# Altium footprint library CC2530_MYDESIGNV1.PcbLib: 19 footprints (part 1 of 2)
Each footprint in its own frame and in the unit in brackets; x right, y up, seen from the top. Pads: shape width x height; smd on the part's side, far side on the other; paste and mask are expansions set on the pad; w line width, h text height; cw(c..) or ccw(c..) is an arc to the next point about the centre after c.
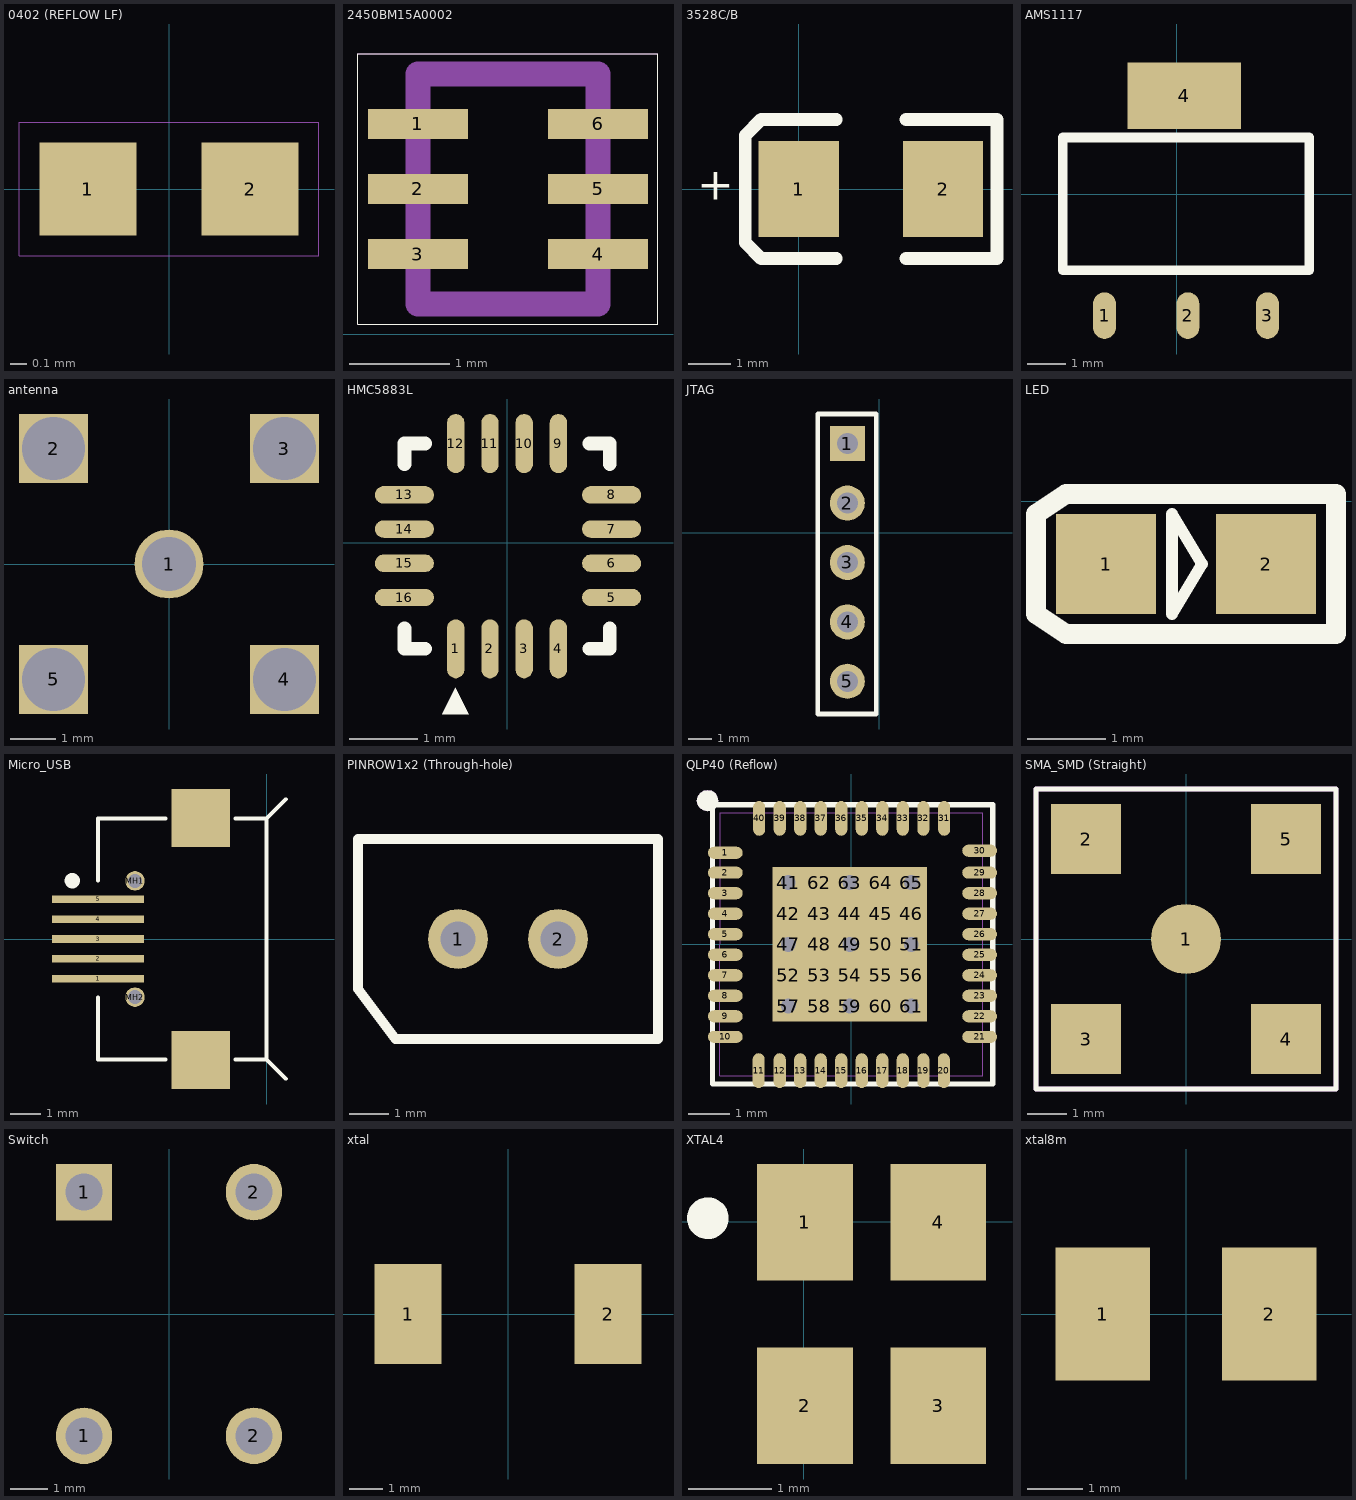
[diagram p0: the footprints below, top view; thin cyan lines are the x and y axes]

## 0402 (REFLOW LF) [mil]
pads (2):
  rect 24x23 smd paste+0 mask+6: 1(-20,0) 2(20,0)
Mechanical 1:
  lines w0.2: -37,-16.5 -37,16.5 37,16.5 37,-16.5 -37,-16.5
Mechanical 2:
  lines w0.2: -37,-16.5 -37,16.5 37,16.5 37,-16.5 -37,-16.5

## 2450BM15A0002 [mm]
pads (6):
  rect 1x0.3 smd paste+0 mask+0.02: 1(-3.3,2.1) 2(-3.3,1.45) 3(-3.3,0.8) 4(-1.5,0.8) 5(-1.5,1.45) 6(-1.5,2.1)
Top Overlay:
  lines w0.003: -3.9,0.1 -3.9,2.8 -0.9,2.8 -0.9,0.1 -3.9,0.1
Mechanical 1:
  lines w0.254: -3.3,0.3 -3.3,2.6 -1.5,2.6 -1.5,0.3 -3.3,0.3
Mechanical 2:
  lines w0.003: -3.9,0.1 -3.9,2.8 -0.9,2.8 -0.9,0.1 -3.9,0.1

## 3528C/B [mm]
height 5.08
pads (2):
  rect 1.9x2.28 smd: 1(0,0) 2(3.42,0)
Top Overlay:
  lines w0.305: 0.889,-1.651 -0.889,-1.651 -1.27,-1.27 -1.27,1.27 -0.889,1.651 0.889,1.651 ; 2.54,-1.651 4.699,-1.651 4.699,1.651 2.54,1.651
  text "+" at -2.413,-0.254 h0.76

## AMS1117 [mm]
height 0.55
pads (4):
  rrect100% 0.604x1.231 smd mask+0.07: 1(-1.9,-3.2) 2(0.3,-3.2) 3(2.4,-3.2)
  rect 3x1.75 smd mask+0.07: 4(0.2,2.6)
Top Overlay:
  lines w0.254: -3,-2 3.5,-2 3.5,1.5 -3,1.5 -3,-2

## antenna [mil]
height 21.65
pads (5):
  round 60 hole 47.24: 1(0,0)
  rect 60x60 hole 55 square: 2(-100.39,100.39) 3(100.39,100.39) 4(100.39,-100.39) 5(-100.39,-100.39)

## HMC5883L [mil]
height 21.65
pads (16):
  oval 10x34 smd: 1(-29.53,-61.02) 2(-9.84,-61.02) 3(9.84,-61.02) 4(29.53,-61.02) 9(29.53,57.09) 10(9.84,57.09) 11(-9.84,57.09) 12(-29.53,57.09)
  oval 34x10 smd: 5(60.12,-31.5) 6(60.12,-11.81) 7(60.12,7.87) 8(60.12,27.56) 13(-59.06,27.56) 14(-59.06,7.87) 15(-59.06,-11.81) 16(-59.06,-31.5)
Top Overlay:
  region: -37.19,-98.52 -22.19,-98.52 -29.69,-83.52
  lines w7.87: -59.06,-49.21 -59.06,-61.02 -47.24,-61.02 ; -59.06,45.28 -59.06,57.09 -47.24,57.09 ; 47.24,-61.02 59.06,-61.02 59.06,-49.21 ; 47.24,57.09 59.06,57.09 59.06,45.28

## JTAG [mm]
height 0.55
pads (5):
  rect 1.5x1.5 hole 0.9: 1(-1.371,3.812)
  round 1.5 hole 0.9: 2(-1.371,1.272) 3(-1.371,-1.268) 4(-1.371,-3.808) 5(-1.371,-6.348)
Top Overlay:
  lines w0.2: -2.641,-7.747 -2.641,5.082 -0.127,5.082 -0.127,-7.747 -2.641,-7.747

## LED [mm]
height 0.55
pads (2):
  rect 1.27x1.27 smd: 1(1.7,-0.8) 2(3.732,-0.8)
Top Overlay:
  lines w0.15: 2.538,-1.435 2.919,-0.8 2.538,-0.165 2.538,-1.435
  lines w0.254: 0.811,-1.435 1.192,-1.689 4.621,-1.689 4.621,0.089 1.192,0.089 0.811,-0.165 0.811,-1.435

## Micro_USB [mm]
height 0.55
pads (9):
  rect 3x0.25 smd: 1(-5.508,-1.3) 2(-5.508,-0.65) 3(-5.508,0) 4(-5.508,0.65) 5(-5.508,1.3)
  round 0.635 hole 0.457 unplated: MH1(-4.3,1.9) MH2(-4.3,-1.9)
  rect 1.9x1.9 smd: ""(-2.15,-3.95) ""(-2.15,3.95)
Top Overlay:
  circle w0.25: c-6.348,1.905 r0.125
  lines w0.127: -5.508,-3.937 -3.302,-3.937 ; -5.508,-3.9 -5.508,-1.905 ; -5.508,1.905 -5.508,3.9 ; -5.508,3.937 -3.302,3.937 ; -1.016,-3.937 0,-3.937 0.63,-4.567 ; -1.016,3.937 0,3.937 0.63,4.567 ; 0,-3.9 0,3.9

## PINROW1x2 (Through-hole) [mil]
pads (2):
  round 60 hole 35 paste+0 mask+25: 1(200,200) 2(300,200)
Top Overlay:
  lines w10: 100,150 100,300 400,300 400,100 137.5,100 100,150
Mechanical 1:
  lines w1: 100,150 100,300 400,300 400,100 137.5,100 100,150
Mechanical 2:
  lines w0.1: 100,150 100,300 400,300 400,100 137.5,100 100,150
  text "1" at 125,150 h35
  text "2" at 350,225 h35

## QLP40 (Reflow) [mil]
pads (65):
  oval 33.36x11.61 smd paste+0 mask+2.17: 1(-121,88) 2(-121,68.9) 3(-121,49.21) 4(-121,29.53) 5(-121,9.84) 6(-121,-9.84) 7(-121,-29.53) 8(-121,-49.21) 9(-121,-68.9) 10(-121,-88.58) 21(123,-88.58) 22(123,-68.9) 23(123,-49.21) 24(123,-29.53) 25(123,-9.84) 26(123,9.84) 27(123,29.53) 28(123,49.21) 29(123,68.9) 30(123,90)
  oval 11.61x33.36 smd paste+0 mask+2.17: 11(-89,-121) 12(-68.83,-121) 13(-49.14,-121) 14(-29.46,-121) 15(-9.77,-121) 16(9.91,-121) 17(29.6,-121) 18(49.28,-121) 19(68.97,-121) 20(88.65,-121) 31(89,121) 32(68.97,121) 33(49.28,121) 34(29.6,121) 35(9.91,121) 36(-9.77,121) 37(-29.46,121) 38(-49.14,121) 39(-68.83,121) 40(-88.51,121)
  rect 30x30 / inner round 60 / far side rect 30x30 hole 14 paste+0 mask+0: 41(-60.56,59.45) 47(-60.56,0) 49(-1.5,0) 51(57.55,0) 57(-60.56,-59.06) 59(-1.5,-59.06) 61(57.55,-59.06) 63(-1.5,59.45) 65(57.55,59.45)
  rect 30x30 smd mask+0: 42(-60.56,29.53) 43(-31.03,29.53) 44(-1.5,29.53) 45(28.02,29.53) 46(57.55,29.53) 48(-31.03,0) 50(28.02,0) 52(-60.56,-29.53) 53(-31.03,-29.53) 54(-1.5,-29.53) 55(28.02,-29.53) 56(57.55,-29.53) 58(-31.03,-59.06) 60(28.02,-59.06) 62(-31.03,59.45) 64(28.02,59.45)
Top Overlay:
  region: -138,127.83 -141.9,128.61 -145.21,130.82 -147.42,134.13 -148.2,138.03 -147.42,141.93 -145.21,145.24 -141.9,147.45 -138,148.23 -134.1,147.45 -130.79,145.24 -128.58,141.93 -127.8,138.03 -128.58,134.13 -130.79,130.82 -134.1,128.61
  lines w5: -133.39,-134 135.5,-134 135.5,134 -133.39,134 -133.39,-134
Mechanical 1:
  region: -138,127.83 -141.9,128.61 -145.21,130.82 -147.42,134.13 -148.2,138.03 -147.42,141.93 -145.21,145.24 -141.9,147.45 -138,148.23 -134.1,147.45 -130.79,145.24 -128.58,141.93 -127.8,138.03 -128.58,134.13 -130.79,130.82 -134.1,128.61
  lines w1: -126.31,-125.99 126.06,-125.99 126.06,126.38 -125.93,126.38 -126.31,-125.99
Mechanical 2:
  lines w0.1: -133.39,-133.86 135.5,-133.86 135.5,133.86 -133.39,133.86 -133.39,-133.86

## SMA_SMD (Straight) [mil]
pads (5):
  round 70 smd paste+0 mask+3: 1(0,0)
  rect 70x70 smd paste+0 mask+3: 2(-100,100) 3(-100,-100) 4(100,-100) 5(100,100)
Top Overlay:
  lines w5: -150,-150 150,-150 150,150 -150,150 -150,-150
Mechanical 1:
  lines w5: -150,-150 150,-150 150,150 -150,150 -150,-150
Mechanical 2:
  lines w5: -150,-150 150,-150 150,150 -150,150 -150,-150

## Switch [mm]
pads (4):
  round 1.524 hole 1: 1(-2.3,-3.3) 2(2.3,-3.3) 2(2.3,3.3)
  rect 1.524x1.524 hole 1: 1(-2.3,3.3)

## xtal [mm]
pads (2):
  rect 2x3 smd: 1(-3,0) 2(3,0)

## XTAL4 [mm]
height 0.55
pads (4):
  rect 1.15x1.4 smd: 1(0.015,-0.007) 2(0.015,-2.207) 3(1.615,-2.207) 4(1.615,-0.007)
Top Overlay:
  circle w0.25: c-1.151,0.043 r0.125

## xtal8m [mm]
pads (2):
  rect 1.7x2.4 smd: 1(-1.5,0) 2(1.5,0)